# Altium schematic symbol library MicroControllers.SchLib: 20 symbols
Pins are listed as number, name and electrical type; pins without a type are passive.

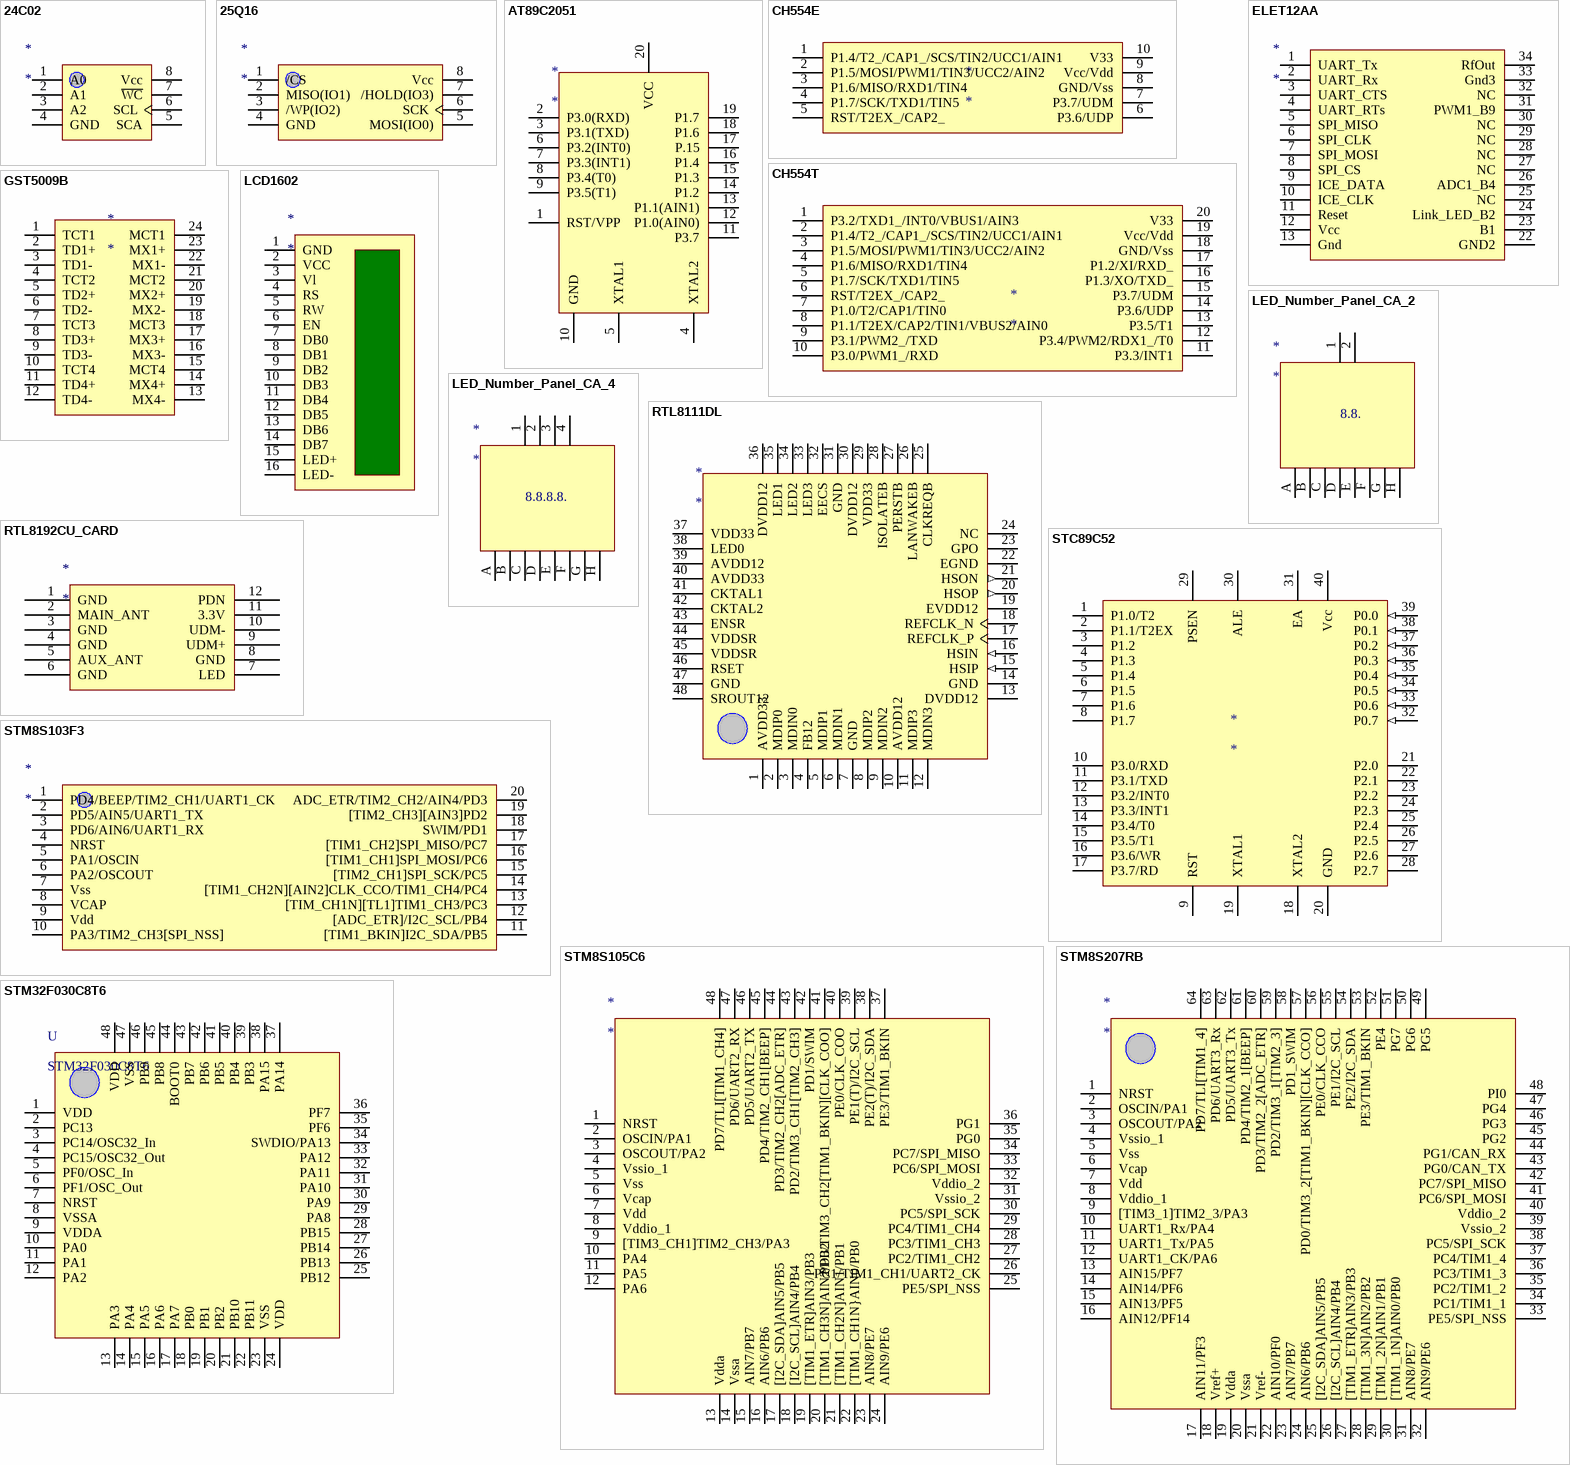
[diagram p0: symbols 24C02 to STM32F030C8T6]

## 24C02
designator *
footprint DIP-8
footprint SO-8
pins: 1 A0, 2 A1, 3 A2, 4 GND, 5 SCA, 6 SCL, 7 ~{WC}, 8 Vcc

## 25Q16
designator *
footprint DIP-8
footprint SO-8
pins: 1 /CS, 2 MISO(IO1), 3 /WP(IO2), 4 GND, 5 MOSI(IO0), 6 SCK, 7 /HOLD(IO3), 8 Vcc

## AT89C2051
designator *
pins: 1 RST/VPP, 2 P3.0(RXD), 3 P3.1(TXD), 4 XTAL2, 5 XTAL1, 6 P3.2(INT0), 7 P3.3(INT1), 8 P3.4(T0), 9 P3.5(T1), 10 GND, 11 P3.7, 12 P1.0(AIN0) (oc), 13 P1.1(AIN1) (oc), 14 P1.2, 15 P1.3, 16 P1.4, 17 P.15, 18 P1.6, 19 P1.7, 20 VCC

## CH554E
designator *
footprint MSOP10
pins: 1 P1.4/T2_/CAP1_/SCS/TIN2/UCC1/AIN1, 2 P1.5/MOSI/PWM1/TIN3/UCC2/AIN2, 3 P1.6/MISO/RXD1/TIN4, 4 P1.7/SCK/TXD1/TIN5, 5 RST/T2EX_/CAP2_, 6 P3.6/UDP, 7 P3.7/UDM, 8 GND/Vss, 9 Vcc/Vdd, 10 V33

## CH554T
designator *
footprint TSSOP-20
pins: 1 P3.2/TXD1_/INT0/VBUS1/AIN3, 2 P1.4/T2_/CAP1_/SCS/TIN2/UCC1/AIN1, 3 P1.5/MOSI/PWM1/TIN3/UCC2/AIN2, 4 P1.6/MISO/RXD1/TIN4, 5 P1.7/SCK/TXD1/TIN5, 6 RST/T2EX_/CAP2_, 7 P1.0/T2/CAP1/TIN0, 8 P1.1/T2EX/CAP2/TIN1/VBUS2/AIN0, 9 P3.1/PWM2_/TXD, 10 P3.0/PWM1_/RXD, 11 P3.3/INT1, 12 P3.4/PWM2/RDX1_/T0, 13 P3.5/T1, 14 P3.6/UDP, 15 P3.7/UDM, 16 P1.3/XO/TXD_, 17 P1.2/XI/RXD_, 18 GND/Vss, 19 Vcc/Vdd, 20 V33

## ELET12AA
designator *
pins: 1 UART_Tx, 2 UART_Rx, 3 UART_CTS, 4 UART_RTs, 5 SPI_MISO, 6 SPI_CLK, 7 SPI_MOSI, 8 SPI_CS, 9 ICE_DATA, 10 ICE_CLK, 11 Reset, 12 Vcc, 13 Gnd, 22 GND2, 23 B1, 24 Link_LED_B2, 25 NC, 26 ADC1_B4, 27 NC, 28 NC, 29 NC, 30 NC, 31 PWM1_B9, 32 NC, 33 Gnd3, 34 RfOut

## GST5009B
designator *
footprint GST5009
pins: 1 TCT1, 2 TD1+, 3 TD1-, 4 TCT2, 5 TD2+, 6 TD2-, 7 TCT3, 8 TD3+, 9 TD3-, 10 TCT4, 11 TD4+, 12 TD4-, 13 MX4-, 14 MX4+, 15 MCT4, 16 MX3-, 17 MX3+, 18 MCT3, 19 MX2-, 20 MX2+, 21 MCT2, 22 MX1-, 23 MX1+, 24 MCT1

## LCD1602
designator *
pins: 1 GND, 2 VCC, 3 Vl, 4 RS, 5 RW, 6 EN, 7 DB0, 8 DB1, 9 DB2, 10 DB3, 11 DB4, 12 DB5, 13 DB6, 14 DB7, 15 LED+, 16 LED-

## LED_Number_Panel_CA_2
designator *
pins: 1, 2, A, B, C, D, E, F, G, H
text: 8.8.

## LED_Number_Panel_CA_4
designator *
pins: 1, 2, 3, 4, A, B, C, D, E, F, G, H
text: 8.8.8.8.

## RTL8111DL
designator *
footprint LQFP-48
pins: 1 AVDD33, 2 MDIP0, 3 MDIN0, 4 FB12, 5 MDIP1, 6 MDIN1, 7 GND, 8 MDIP2, 9 MDIN2, 10 AVDD12, 11 MDIP3, 12 MDIN3, 13 DVDD12, 14 GND, 15 HSIP (in), 16 HSIN (in), 17 REFCLK_P, 18 REFCLK_N, 19 EVDD12, 20 HSOP (out), 21 HSON (out), 22 EGND, 23 GPO, 24 NC, 25 CLKREQB, 26 LANWAKEB, 27 PERSTB, 28 ISOLATEB, 29 VDD33, 30 DVDD12, 31 GND, 32 EECS, 33 LED3, 34 LED2, 35 LED1, 36 DVDD12, 37 VDD33, 38 LED0, 39 AVDD12, 40 AVDD33, 41 CKTAL1, 42 CKTAL2, 43 ENSR, 44 VDDSR, 45 VDDSR, 46 RSET, 47 GND, 48 SROUT12

## RTL8192CU_CARD
designator *
footprint RTL8192CU_CARD
pins: 1 GND, 2 MAIN_ANT, 3 GND, 4 GND, 5 AUX_ANT, 6 GND, 7 LED, 8 GND, 9 UDM+, 10 UDM-, 11 3.3V, 12 PDN

## STC89C52
designator *
footprint DIP-40
pins: 1 P1.0/T2, 2 P1.1/T2EX, 3 P1.2, 4 P1.3, 5 P1.4, 6 P1.5, 7 P1.6, 8 P1.7, 9 RST, 10 P3.0/RXD, 11 P3.1/TXD, 12 P3.2/INT0, 13 P3.3/INT1, 14 P3.4/T0, 15 P3.5/T1, 16 P3.6/WR, 17 P3.7/RD, 18 XTAL2, 19 XTAL1, 20 GND, 21 P2.0, 22 P2.1, 23 P2.2, 24 P2.3, 25 P2.4, 26 P2.5, 27 P2.6, 28 P2.7, 29 PSEN, 30 ALE, 31 EA, 32 P0.7 (in), 33 P0.6 (in), 34 P0.5 (in), 35 P0.4 (in), 36 P0.3 (in), 37 P0.2 (in), 38 P0.1 (in), 39 P0.0 (in), 40 Vcc

## STM8S103F3
designator *
footprint TSSOP-20
pins: 1 PD4/BEEP/TIM2_CH1/UART1_CK, 2 PD5/AIN5/UART1_TX, 3 PD6/AIN6/UART1_RX, 4 NRST, 5 PA1/OSCIN, 6 PA2/OSCOUT, 7 Vss, 8 VCAP, 9 Vdd, 10 PA3/TIM2_CH3[SPI_NSS], 11 [TIM1_BKIN]I2C_SDA/PB5, 12 [ADC_ETR]/I2C_SCL/PB4, 13 [TIM_CH1N][TL1]TIM1_CH3/PC3, 14 [TIM1_CH2N][AIN2]CLK_CCO/TIM1_CH4/PC4, 15 [TIM2_CH1]SPI_SCK/PC5, 16 [TIM1_CH1]SPI_MOSI/PC6, 17 [TIM1_CH2]SPI_MISO/PC7, 18 SWIM/PD1, 19 [TIM2_CH3][AIN3]PD2, 20 ADC_ETR/TIM2_CH2/AIN4/PD3

## STM8S105C6
designator *
footprint LQFP48
pins: 1 NRST, 2 OSCIN/PA1, 3 OSCOUT/PA2, 4 Vssio_1, 5 Vss, 6 Vcap, 7 Vdd, 8 Vddio_1, 9 [TIM3_CH1]TIM2_CH3/PA3, 10 PA4, 11 PA5, 12 PA6, 13 Vdda, 14 Vssa, 15 AIN7/PB7, 16 AIN6/PB6, 17 [I2C_SDA]AIN5/PB5, 18 [I2C_SCL]AIN4/PB4, 19 [TIM1_ETR]AIN3/PB3, 20 [TIM1_CH3N]AIN2/PB2, 21 [TIM1_CH2N]AIN1/PB1, 22 [TIM1_CH1N}AIN0/PB0, 23 AIN8/PE7, 24 AIN9/PE6, 25 PE5/SPI_NSS, 26 PC1/TIM1_CH1/UART2_CK, 27 PC2/TIM1_CH2, 28 PC3/TIM1_CH3, 29 PC4/TIM1_CH4, 30 PC5/SPI_SCK, 31 Vssio_2, 32 Vddio_2, 33 PC6/SPI_MOSI, 34 PC7/SPI_MISO, 35 PG0, 36 PG1, 37 PE3/TIM1_BKIN, 38 PE2(T)/I2C_SDA, 39 PE1(T)/I2C_SCL, 40 PE0/CLK_COO, 41 PD0/TIM3_CH2[TIM1_BKIN][CLK_COO], 42 PD1/SWIM, 43 PD2/TIM3_CH1[TIM2_CH3], 44 PD3/TIM2_CH2[ADC_ETR], 45 PD4/TIM2_CH1[BEEP], 46 PD5/UART2_TX, 47 PD6/UART2_RX, 48 PD7/TLI[TIM1_CH4]

## STM8S207RB
designator *
pins: 1 NRST, 2 OSCIN/PA1, 3 OSCOUT/PA2, 4 Vssio_1, 5 Vss, 6 Vcap, 7 Vdd, 8 Vddio_1, 9 [TIM3_1]TIM2_3/PA3, 10 UART1_Rx/PA4, 11 UART1_Tx/PA5, 12 UART1_CK/PA6, 13 AIN15/PF7, 14 AIN14/PF6, 15 AIN13/PF5, 16 AIN12/PF14, 17 AIN11/PF3, 18 Vref+, 19 Vdda, 20 Vssa, 21 Vref-, 22 AIN10/PF0, 23 AIN7/PB7, 24 AIN6/PB6, 25 [I2C_SDA]AIN5/PB5, 26 [I2C_SCL]AIN4/PB4, 27 [TIM1_ETR]AIN3/PB3, 28 [TIM1_3N]AIN2/PB2, 29 [TIM1_2N]AIN1/PB1, 30 [TIM1_1N]AIN0/PB0, 31 AIN8/PE7, 32 AIN9/PE6, 33 PE5/SPI_NSS, 34 PC1/TIM1_1, 35 PC2/TIM1_2, 36 PC3/TIM1_3, 37 PC4/TIM1_4, 38 PC5/SPI_SCK, 39 Vssio_2, 40 Vddio_2, 41 PC6/SPI_MOSI, 42 PC7/SPI_MISO, 43 PG0/CAN_TX, 44 PG1/CAN_RX, 45 PG2, 46 PG3, 47 PG4, 48 PI0, 49 PG5, 50 PG6, 51 PG7, 52 PE4, 53 PE3/TIM1_BKIN, 54 PE2/I2C_SDA, 55 PE1/I2C_SCL, 56 PE0/CLK_CCO, 57 PD0/TIM3_2[TIM1_BKIN][CLK_CCO], 58 PD1_SWIM, 59 PD2/TIM3_1[TIM2_3], 60 PD3/TIM2_2[ADC_ETR], 61 PD4/TIM2_1[BEEP], 62 PD5/UART3_Tx, 63 PD6/UART3_Rx, 64 PD7/TLI[TIM1_4]

## STM32F030C8T6
designator U
footprint LQFP48
pins: 1 VDD (power), 2 PC13, 3 PC14/OSC32_In, 4 PC15/OSC32_Out, 5 PF0/OSC_In, 6 PF1/OSC_Out, 7 NRST, 8 VSSA (power), 9 VDDA (power), 10 PA0, 11 PA1, 12 PA2, 13 PA3, 14 PA4, 15 PA5, 16 PA6, 17 PA7, 18 PB0, 19 PB1, 20 PB2, 21 PB10, 22 PB11, 23 VSS (power), 24 VDD (power), 25 PB12, 26 PB13, 27 PB14, 28 PB15, 29 PA8, 30 PA9, 31 PA10, 32 PA11, 33 PA12, 34 SWDIO/PA13, 35 PF6, 36 PF7, 37 PA14, 38 PA15, 39 PB3, 40 PB4, 41 PB5, 42 PB6, 43 PB7, 44 BOOT0, 45 PB8, 46 PB9, 47 VSS (power), 48 VDD (power)

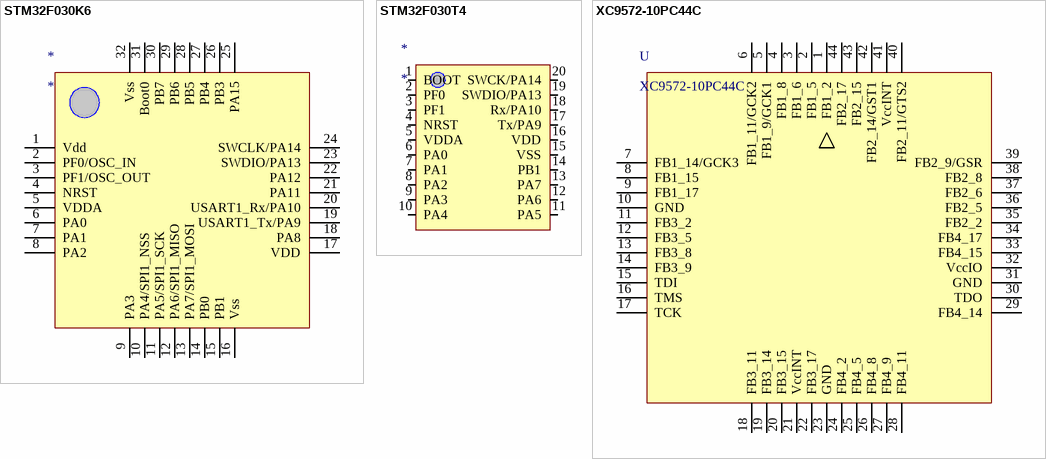
[diagram p1: symbols STM32F030K6 to XC9572-10PC44C]

## STM32F030K6
designator *
footprint LQFP32 (Thin QFP, 32-Leads, Body 7x7mm, Pitch 0.8mm, IPC Medium Density)
pins: 1 Vdd, 2 PF0/OSC_IN, 3 PF1/OSC_OUT, 4 NRST, 5 VDDA, 6 PA0, 7 PA1, 8 PA2, 9 PA3, 10 PA4/SPI1_NSS, 11 PA5/SPI1_SCK, 12 PA6/SPI1_MISO, 13 PA7/SPI1_MOSI, 14 PB0, 15 PB1, 16 Vss, 17 VDD, 18 PA8, 19 USART1_Tx/PA9, 20 USART1_Rx/PA10, 21 PA11, 22 PA12, 23 SWDIO/PA13, 24 SWCLK/PA14, 25 PA15, 26 PB3, 27 PB4, 28 PB5, 29 PB6, 30 PB7, 31 Boot0, 32 Vss

## STM32F030T4
designator *
footprint TSSOP-20
pins: 1 BOOT, 2 PF0, 3 PF1, 4 NRST, 5 VDDA, 6 PA0, 7 PA1, 8 PA2, 9 PA3, 10 PA4, 11 PA5, 12 PA6, 13 PA7, 14 PB1, 15 VSS, 16 VDD, 17 Tx/PA9, 18 Rx/PA10, 19 SWDIO/PA13, 20 SWCK/PA14

## XC9572-10PC44C
designator U
footprint PLCC44_TH (Chip Carrier Socket, PC44, Through Hole)
pins: 1 FB1_2 (power), 2 FB1_5, 3 FB1_6, 4 FB1_8, 5 FB1_9/GCK1, 6 FB1_11/GCK2, 7 FB1_14/GCK3, 8 FB1_15 (power), 9 FB1_17 (power), 10 GND, 11 FB3_2, 12 FB3_5, 13 FB3_8, 14 FB3_9, 15 TDI, 16 TMS, 17 TCK, 18 FB3_11, 19 FB3_14, 20 FB3_15, 21 VccINT, 22 FB3_17, 23 GND (power), 24 FB4_2 (power), 25 FB4_5, 26 FB4_8, 27 FB4_9, 28 FB4_11, 29 FB4_14, 30 TDO, 31 GND, 32 VccIO, 33 FB4_15, 34 FB4_17, 35 FB2_2, 36 FB2_5, 37 FB2_6, 38 FB2_8, 39 FB2_9/GSR, 40 FB2_11/GTS2, 41 VccINT, 42 FB2_14/GST1, 43 FB2_15, 44 FB2_17